# Altium footprint library PCB1.PcbLib: 103 footprints (part 3 of 7)
Each footprint in its own frame and in the unit in brackets; x right, y up, seen from the top. Pads: shape width x height; smd on the part's side, far side on the other; paste and mask are expansions set on the pad; w line width, h text height; cw(c..) or ccw(c..) is an arc to the next point about the centre after c.
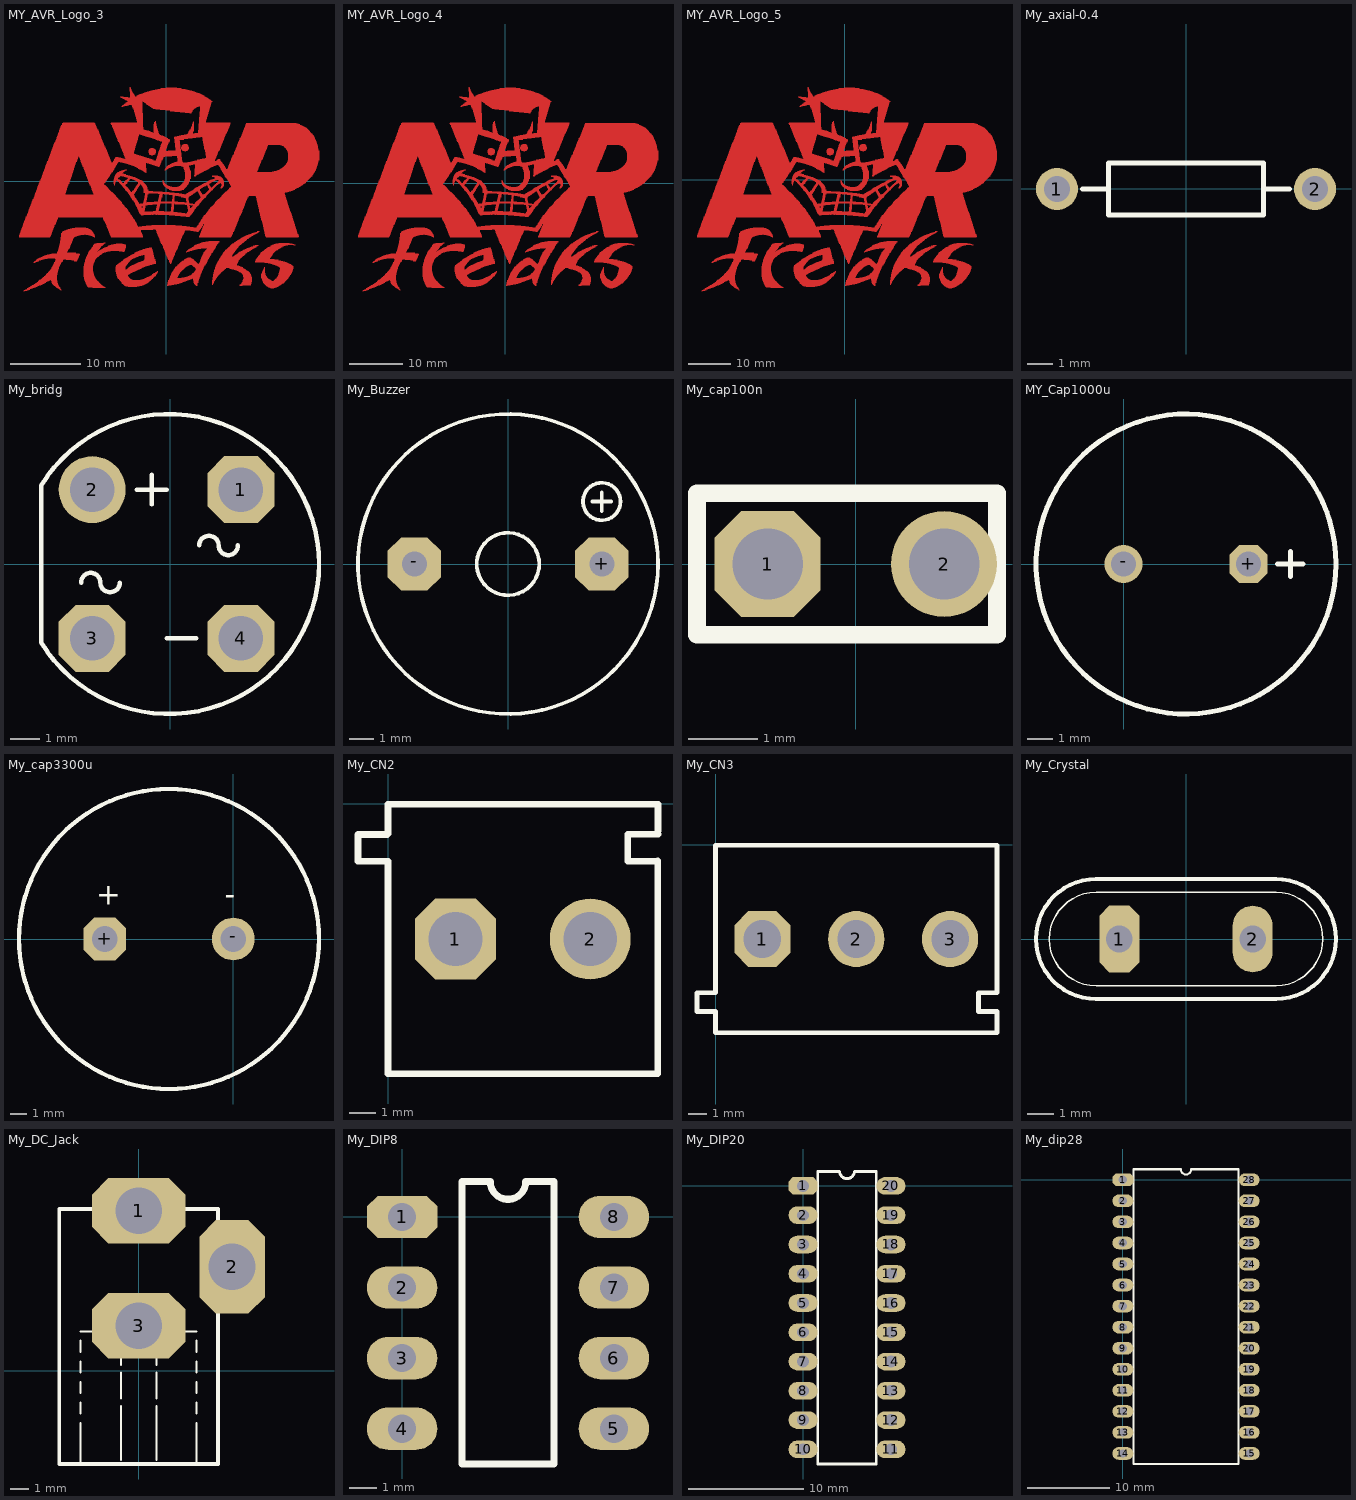
[diagram p2: the footprints below, top view; thin cyan lines are the x and y axes]

## MY_AVR_Logo_3 [mil]
Top Layer:
  drawing of 2521 lines, arcs and shapes, not listed

## MY_AVR_Logo_4 [mil]
Top Layer:
  drawing of 2521 lines, arcs and shapes, not listed

## MY_AVR_Logo_5 [mil]
Top Layer:
  drawing of 2521 lines, arcs and shapes, not listed

## My_axial-0.4 [mil]
pads (2):
  round 65 hole 40: 1(-200.5,-0.5) 2(199.5,-0.5)
Top Overlay:
  lines w7.87: -160.5,-0.5 -120.5,-0.5 ; 119.5,-0.5 159.5,-0.5 ; -120.5,-40.5 -120.5,39.5 119.5,39.5 119.5,-40.5 -120.5,-40.5

## My_bridg [mil]
pads (4):
  oct 90x90 hole 60: 1(95,100) 3(-105,-100) 4(95,-100)
  round 90 hole 60: 2(-105,100)
Top Overlay:
  lines w6: -120,-25 cw(c-107,-25) -94,-25 ccw(c-81,-25) -68,-25 ; -45,100 -5,100 ; -25,80 -25,120 ; -5,-100 35,-100 ; 39,25 cw(c52,25) 65,25 ccw(c78,25) 91,25 ; -173.74,-105.35 ccw(c-1.72,0) -173.74,105.35 -173.74,-105.35

## My_Buzzer [mil]
height 354.33
pads (2):
  oct 85x85 hole 40: +(150,0) -(-150,0)
Top Overlay:
  circle w6: c0,0 r240
  circle w6: c0,0 r50
  circle w6: c150,100 r30
  lines w6: 135,100 165,100 ; 150,85 150,115

## My_cap100n [mil]
pads (2):
  oct 60x60 hole 40: 1(-50,0)
  round 60 hole 40: 2(50,0)
Top Overlay:
  lines w10: -90,-40 80,-40 80,40 -90,40 -90,-40

## MY_Cap1000u [mil]
pads (2):
  oct 60x60 hole 40: +(196.85,0)
  round 60 hole 40: -(0,0)
Top Overlay:
  circle w7.87: c98.43,0 r236.22
  lines w7.87: 242.64,0 282.64,0 ; 262.64,-20 262.64,20

## My_cap3300u [mil]
pads (2):
  oct 100x100 hole 60: +(-300,0)
  round 100 hole 60: -(0,0)
Top Overlay:
  circle w10: c-150,0 r350
  text "-" at -20,80 h50
  text "+" at -320,80 h50

## My_CN2 [mil]
pads (2):
  oct 120x120 hole 80: 1(99.5,-200.5)
  round 120 hole 80: 2(299.5,-200.5)
Top Overlay:
  lines w10: -45,-85 -45,-45.63 -1.63,-45.63 ; -44.37,-85 -0.5,-85 -0.5,-400.5 399.5,-400.5 399.5,-84.5 ; -0.5,-44.5 -0.5,-34.5 -0.5,-0.5 399.5,-0.5 ; 399,-85 355,-85 355,-45 400,-45 ; 400,-40 400,-0.63

## My_CN3 [mil]
pads (3):
  oct 120x120 hole 80: 1(99.5,-200.5)
  round 120 hole 80: 2(299.5,-200.5) 3(499.5,-200.5)
Top Overlay:
  lines w10: -40,-315.63 -40,-355 -0.63,-355 ; -40,-315 -0.63,-315 -0.63,-0.63 ; -0.5,-355.13 -0.5,-400.5 599.5,-400.5 599.5,-355.13 ; -0.5,-0.5 599.5,-0.5 ; 560,-315.63 560,-355 599.37,-355 ; 560,-315 599.37,-315 599.37,-0.63

## My_Crystal [mil]
pads (2):
  oct 60x100 hole 40: 1(-100,0)
  oval 60x100 hole 40: 2(100,0)
Top Overlay:
  lines w2: -135,-70 cw(c-135,0) -135,70 135,70 cw(c135,0) 135,-70 -135,-70
  lines w6: -135,-90 cw(c-135,0) -135,90 135,90 cw(c135,0) 135,-90 -135,-90

## My_DC_Jack [mm]
pads (3):
  oct 5x3.5 hole 2.5: 1(0,8.57) 3(0,2.42)
  oct 3.5x5 hole 2.5: 2(5,5.57)
Top Overlay:
  lines w0.102: -3.1,-4.878 -3.1,-2.78 ; -3.1,-2.28 -3.1,-1.68 ; -3.1,-1.18 -3.1,-0.58 ; -3.1,-0.08 -3.1,0.52 ; -3.1,1.02 -3.1,1.62 ; -3.1,2.12 -2.5,2.12 ; -2,2.12 -1.4,2.12 ; -0.95,-4.778 -0.95,-1.88 ; -0.95,-1.48 -0.95,-0.08 ; -0.95,0.32 -0.95,1.72 ; -0.9,2.12 -0.3,2.12 ; 0.4,2.12 1,2.12 ; 0.95,-4.778 0.95,-1.88 ; 0.95,-1.48 0.95,-0.08 ; 0.95,0.32 0.95,1.72 ; 1.4,2.12 2,2.12 ; 2.5,2.12 3.1,2.12 ; 3.1,-4.878 3.1,-2.78 ; 3.1,-2.28 3.1,-1.68 ; 3.1,-1.18 3.1,-0.58 ; 3.1,-0.08 3.1,0.52 ; 3.1,1.02 3.1,1.62
  lines w0.203: -4.25,-4.978 -4.25,8.67 4.25,8.67 4.25,-4.978 -4.25,-4.978
Mechanical 1:
  lines w0.254: -1.6,8.07 -1.6,9.07 1.6,9.07 1.6,8.07 ; -1.6,1.92 -1.6,2.92 1.6,2.92 1.6,1.92 -1.6,1.92 ; 4.5,3.97 4.5,7.17 5.5,7.17 5.5,3.97 4.5,3.97

## My_DIP8 [mil]
pads (8):
  oct 100x60 hole 40: 1(0,0)
  oval 100x60 hole 40: 2(0,-100) 3(0,-200) 4(0,-300) 5(300,-300) 6(300,-200) 7(300,-100) 8(300,0)
Top Overlay:
  lines w10: 85,-350 215,-350 215,50 175,50 cw(c150,50) 125,50 85,50 85,-350

## My_DIP20 [mil]
pads (20):
  oct 100x60 hole 40: 1(-0.5,-0.5)
  oval 100x60 hole 40: 2(-0.5,-100.5) 3(-0.5,-200.5) 4(-0.5,-300.5) 5(-0.5,-400.5) 6(-0.5,-500.5) 7(-0.5,-600.5) 8(-0.5,-700.5) 9(-0.5,-800.5) 10(-0.5,-900.5) 11(299.5,-900.5) 12(299.5,-800.5) 13(299.5,-700.5) 14(299.5,-600.5) 15(299.5,-500.5) 16(299.5,-400.5) 17(299.5,-300.5) 18(299.5,-200.5) 19(299.5,-100.5) 20(299.5,-0.5)
Top Overlay:
  lines w10: 49.5,-950.5 249.5,-950.5 249.5,49.5 174.5,49.5 cw(c149.5,49.5) 124.5,49.5 49.5,49.5 49.5,-950.5

## My_dip28 [mil]
pads (28):
  oct 100x60 hole 40: 1(-0.5,-0.5)
  oval 100x60 hole 40: 2(-0.5,-100.5) 3(-0.5,-200.5) 4(-0.5,-300.5) 5(-0.5,-400.5) 6(-0.5,-500.5) 7(-0.5,-600.5) 8(-0.5,-700.5) 9(-0.5,-800.5) 10(-0.5,-900.5) 11(-0.5,-1000.5) 12(-0.5,-1100.5) 13(-0.5,-1200.5) 14(-0.5,-1300.5) 15(599.5,-1300.5) 16(599.5,-1200.5) 17(599.5,-1100.5) 18(599.5,-1000.5) 19(599.5,-900.5) 20(599.5,-800.5) 21(599.5,-700.5) 22(599.5,-600.5) 23(599.5,-500.5) 24(599.5,-400.5) 25(599.5,-300.5) 26(599.5,-200.5) 27(599.5,-100.5) 28(599.5,-0.5)
Top Overlay:
  lines w10: 49.5,-1350.5 549.5,-1350.5 549.5,49.5 324.5,49.5 cw(c299.5,49.5) 274.5,49.5 49.5,49.5 49.5,-1350.5